# Altium schematic symbol library MPM3610GQV-P.SchLib: 2 symbols
Pins are listed as number, name and electrical type; pins without a type are passive.

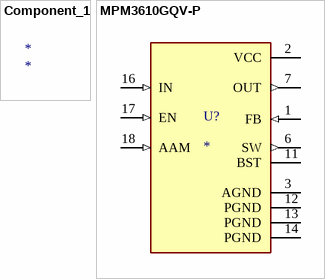
[diagram p0: symbols Component_1 to MPM3610GQV-P]

## Component_1
designator *

## MPM3610GQV-P
designator U?
Ic Reg Buck Adj 1.2a Sync 20qfn; MF: {'manufacturer': u'Monolithic Power'}; MP: MPM3610GQV-P; Value: *; Availability: Unavailable; Price: None; Package: None
footprint CONV_MPM3610GQV-P
pins: 1 FB (in), 2 VCC (power), 3 AGND (power), 6 SW (out), 7 OUT (out), 11 BST, 12 PGND (power), 13 PGND (power), 14 PGND (power), 16 IN (in), 17 EN (in), 18 AAM (in)